# Altium footprint library Crystal_SMD3225_4P.PcbLib: 1 footprints
Each footprint in its own frame and in the unit in brackets; x right, y up, seen from the top. Pads: shape width x height; smd on the part's side, far side on the other; paste and mask are expansions set on the pad; w line width, h text height; cw(c..) or ccw(c..) is an arc to the next point about the centre after c.
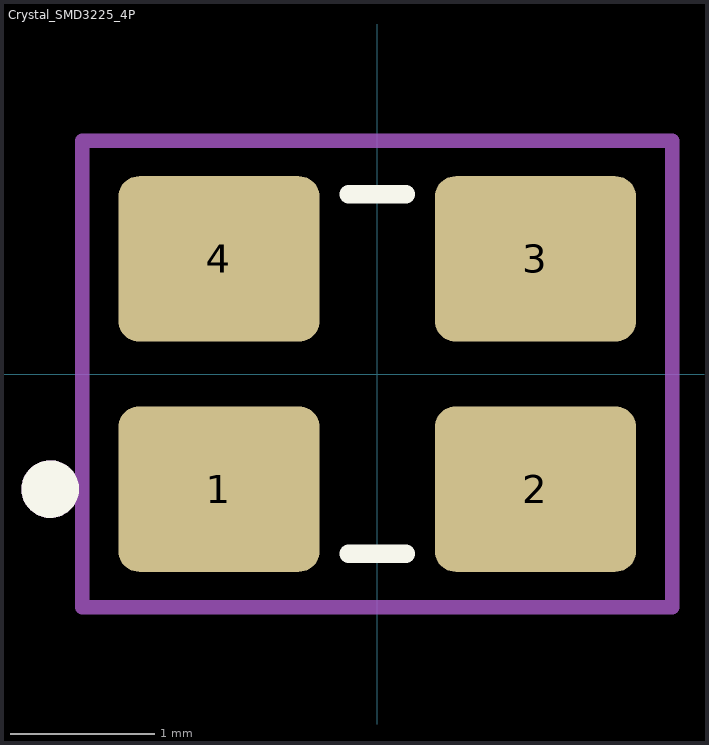
[diagram p0: the footprint, top view; thin cyan lines are the x and y axes]

## Crystal_SMD3225_4P [mm] "Crystal_SMD3225_4P"
pads (4):
  rrect25% 1.4x1.15 smd: 1(-1.1,-0.8) 2(1.1,-0.8) 3(1.1,0.8) 4(-1.1,0.8)
Top Overlay:
  circle w0.2: c-2.273,-0.8 r0.1
  lines w0.127: -0.2,-1.25 0.2,-1.25 ; -0.2,1.25 0.2,1.25
Mechanical 1:
  circle w0.2: c-2.273,-0.8 r0.1
  lines w0.1: -2.05,-1.62 2.05,-1.62 2.05,1.62 -2.05,1.62 -2.05,-1.62
  text ".Designator" at 0,0.188 h1
Mechanical 15:
  text "+" at -0.333,-0.5 h1
3D body "TSX-3225 16.0000MF18X-AC3--3DModel-STEP-56544.STEP": height 0.6, standoff 0, extent -1.6,-1.25 1.6,1.25